# EAGLE library part LA1135 (library LA1135)
The LA1135 is a high-performance AM electronic tuner IC that is greatly improved in cross modulation characteristics. It is especially suited for use in car radio and home stereo (antenna: loop) applications.
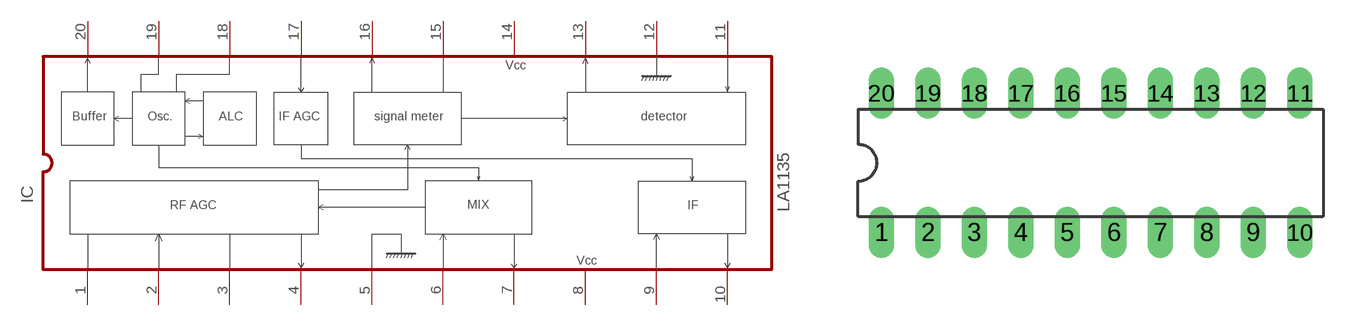
[diagram p0: symbol with the pads of DIL20_; footprint DIL20_]

Designator prefix IC

## LA1135  [DIL20_]
1  1
2  2
3  3
4  4
5  5
6  6
7  7
8  8
9  9
10  10
11  11
12  12
13  13
14  14
15  15
16  16
17  17
18  18
19  19
20  20

## Footprint DIL20_ (pad centres in mm)
drill 0.7 pad 1.4 long: 1 -11.43,-3.81; 2 -8.89,-3.81; 3 -6.35,-3.81; 4 -3.81,-3.81; 5 -1.27,-3.81; 6 1.27,-3.81; 7 3.81,-3.81; 8 6.35,-3.81; 9 8.89,-3.81; 10 11.43,-3.81; 11 11.43,3.81; 12 8.89,3.81; 13 6.35,3.81; 14 3.81,3.81; 15 1.27,3.81; 16 -1.27,3.81; 17 -3.81,3.81; 18 -6.35,3.81; 19 -8.89,3.81; 20 -11.43,3.81